# EAGLE library part 1X8 (library headers(2mm))
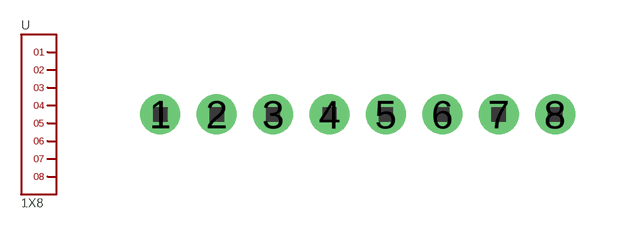
[diagram p2: symbol with the pads of 1X8; footprint 1X8]

Designator prefix -

## 1X8  [1X8]
1  1
2  2
3  3
4  4
5  5
6  6
7  7
8  8

## Footprint 1X8 (pad centres in mm)
drill 0.8 pad 1.422: 1 -7,0; 2 -5,0; 3 -3,0; 4 -1,0; 5 1,0; 6 3,0; 7 5,0; 8 7,0